# Altium footprint library FPGA_MG.PcbLib: 34 footprints (part 1 of 4)
Each footprint in its own frame and in the unit in brackets; x right, y up, seen from the top. Pads: shape width x height; smd on the part's side, far side on the other; paste and mask are expansions set on the pad; w line width, h text height; cw(c..) or ccw(c..) is an arc to the next point about the centre after c.
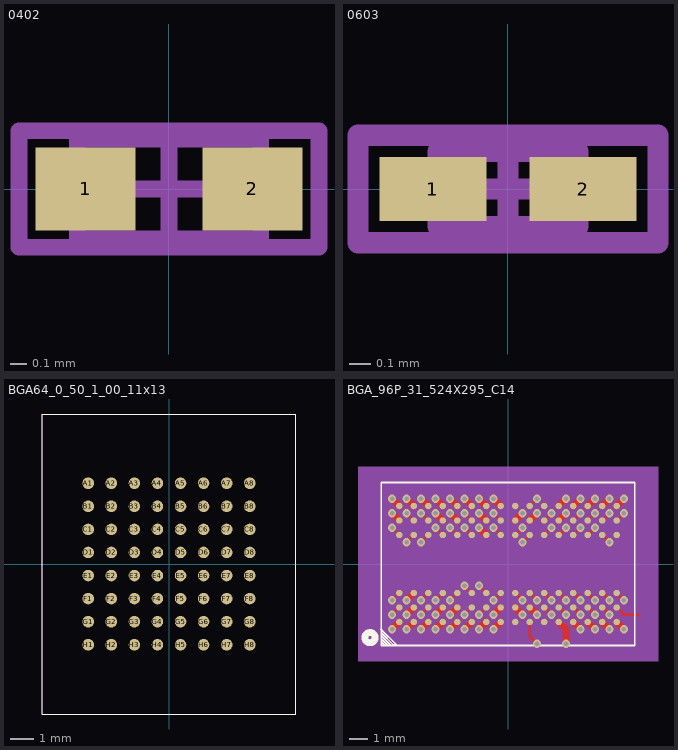
[diagram p0: the footprints below, top view; thin cyan lines are the x and y axes]

## 0402 [mm] "Chip Capacitor, Body 1.0x0.5mm, IPC High Density"
height 1.3
pads (2):
  rect 0.6x0.5 smd: 1(-0.5,0) 2(0.5,0)
Mechanical 13:
  lines w0.1: -0.55,-0.3 -0.55,0.3 0.55,0.3 0.55,-0.3 -0.55,-0.3
Mechanical 15:
  lines w0.1: -0.3,0 0.3,0 ; 0,-0.3 0,0.3 ; -0.9,-0.35 -0.9,0.35 0.9,0.35 0.9,-0.35 -0.9,-0.35
3D body: height 1.3, standoff 0, extent -0.55,-0.3 0.55,0.3

## 0603 [mm] "Chip Inductor, Body 0.6x0.3mm, IPC High Density"
height 0.55
pads (2):
  rect 0.5x0.3 smd: 1(-0.35,0) 2(0.35,0)
Mechanical 13:
  lines w0.1: -0.325,-0.175 0.325,-0.175 0.325,0.175 -0.325,0.175 -0.325,-0.175
Mechanical 15:
  lines w0.1: -0.175,0 0.175,0 ; 0,-0.175 0,0.175 ; -0.7,-0.25 0.7,-0.25 0.7,0.25 -0.7,0.25 -0.7,-0.25
3D body: height 0.55, standoff 0, extent -0.325,-0.175 0.325,0.175

## BGA64_0_50_1_00_11x13 [mm] "BGA64_0_50_1_00_11X13"
pads (64):
  round 0.5 smd: A1(-3.5,3.5) A2(-2.5,3.5) A3(-1.5,3.5) A4(-0.5,3.5) A5(0.5,3.5) A6(1.5,3.5) A7(2.5,3.5) A8(3.5,3.5) B1(-3.5,2.5) B2(-2.5,2.5) B3(-1.5,2.5) B4(-0.5,2.5) B5(0.5,2.5) B6(1.5,2.5) B7(2.5,2.5) B8(3.5,2.5) C1(-3.5,1.5) C2(-2.5,1.5) C3(-1.5,1.5) C4(-0.5,1.5) C5(0.5,1.5) C6(1.5,1.5) C7(2.5,1.5) C8(3.5,1.5) D1(-3.5,0.5) D2(-2.5,0.5) D3(-1.5,0.5) D4(-0.5,0.5) D5(0.5,0.5) D6(1.5,0.5) D7(2.5,0.5) D8(3.5,0.5) E1(-3.5,-0.5) E2(-2.5,-0.5) E3(-1.5,-0.5) E4(-0.5,-0.5) E5(0.5,-0.5) E6(1.5,-0.5) E7(2.5,-0.5) E8(3.5,-0.5) F1(-3.5,-1.5) F2(-2.5,-1.5) F3(-1.5,-1.5) F4(-0.5,-1.5) F5(0.5,-1.5) F6(1.5,-1.5) F7(2.5,-1.5) F8(3.5,-1.5) G1(-3.5,-2.5) G2(-2.5,-2.5) G3(-1.5,-2.5) G4(-0.5,-2.5) G5(0.5,-2.5) G6(1.5,-2.5) G7(2.5,-2.5) G8(3.5,-2.5) H1(-3.5,-3.5) H2(-2.5,-3.5) H3(-1.5,-3.5) H4(-0.5,-3.5) H5(0.5,-3.5) H6(1.5,-3.5) H7(2.5,-3.5) H8(3.5,-3.5)
Top Overlay:
  lines w0.025: -5.5,-6.5 -5.5,6.5 5.5,6.5 5.5,-6.5 -5.5,-6.5
Mechanical 5:
  lines w0.025: -5.5,-6.5 -5.5,6.5 5.5,6.5 5.5,-6.5 -5.5,-6.5
  text "U7" at -0.192,6.836 h0.64
Mechanical 14:
  text "H7" at 2.094,-3.5 h0.51
  text "E8" at 3.094,-0.5 h0.51
  text "H2" at -2.907,-3.5 h0.51
  text "G5" at 0.094,-2.5 h0.51
  text "G6" at 1.094,-2.5 h0.51
  text "G3" at -1.907,-2.5 h0.51
  text "F3" at -1.907,-1.5 h0.51
  text "F5" at 0.094,-1.5 h0.51
  text "G4" at -0.907,-2.5 h0.51
  text "F2" at -2.907,-1.5 h0.51
  text "A4" at -0.907,3.5 h0.51
  text "F6" at 1.094,-1.5 h0.51
  text "G7" at 2.094,-2.5 h0.51
  text "F4" at -0.907,-1.5 h0.51
  text "A5" at 0.094,3.5 h0.51
  text "G2" at -2.907,-2.5 h0.51
  text "C7" at 2.094,1.5 h0.51
  text "C2" at -2.907,1.5 h0.51
  text "C6" at 1.094,1.5 h0.51
  text "A2" at -2.907,3.5 h0.51
  text "A3" at -1.907,3.5 h0.51
  text "D7" at 2.094,0.5 h0.51
  text "D3" at -1.907,0.5 h0.51
  text "A6" at 1.094,3.5 h0.51
  text "C3" at -1.907,1.5 h0.51
  text "E7" at 2.094,-0.5 h0.51
  text "D2" at -2.907,0.5 h0.51
  text "B6" at 1.094,2.5 h0.51
  text "D6" at 1.094,0.5 h0.51
  text "B2" at -2.907,2.5 h0.51
  text "E3" at -1.907,-0.5 h0.51
  text "E5" at 0.094,-0.5 h0.51
  text "A7" at 2.094,3.5 h0.51
  text "H6" at 1.094,-3.5 h0.51
  text "B7" at 2.094,2.5 h0.51
  text "H5" at 0.094,-3.5 h0.51
  text "E6" at 1.094,-0.5 h0.51
  text "H4" at -0.907,-3.5 h0.51
  text "E4" at -0.907,-0.5 h0.51
  text "H3" at -1.907,-3.5 h0.51
  text "B3" at -1.907,2.5 h0.51
  text "C4" at -0.907,1.5 h0.51
  text "D5" at 0.094,0.5 h0.51
  text "D4" at -0.907,0.5 h0.51
  text "C5" at 0.094,1.5 h0.51
  text "B8" at 3.094,2.5 h0.51
  text "E2" at -2.907,-0.5 h0.51
  text "C8" at 3.094,1.5 h0.51
  text "B5" at 0.094,2.5 h0.51
  text "B4" at -0.907,2.5 h0.51
  text "F7" at 2.094,-1.5 h0.51
  text "B1" at -3.907,2.5 h0.51
  text "F8" at 3.094,-1.5 h0.51
  text "G8" at 3.094,-2.5 h0.51
  text "G1" at -3.907,-2.5 h0.51
  text "E1" at -3.907,-0.5 h0.51
  text "D1" at -3.907,0.5 h0.51
  text "C1" at -3.907,1.5 h0.51
  text "H8" at 3.094,-3.5 h0.51
  text "H1" at -3.907,-3.5 h0.51
  text "A8" at 3.094,3.5 h0.51
  text "A1" at -3.907,3.5 h0.51
  text "D8" at 3.094,0.5 h0.51
  text "F1" at -3.907,-1.5 h0.51
Mechanical 16:
  lines w0.025: -5.5,-6.5 -5.5,6.5 ; -5.5,-6.5 5.5,-6.5 ; -5.5,-6.5 -5.5,6.5 ; -5.5,-6.5 5.5,-6.5 ; -5.5,-6.5 -5.5,6.5 ; -5.5,-6.5 5.5,-6.5 ; -5.5,6.5 5.5,6.5 ; -5.5,6.5 5.5,6.5 ; -5.5,6.5 5.5,6.5 ; 5.5,-6.5 5.5,6.5 ; 5.5,-6.5 5.5,6.5 ; 5.5,-6.5 5.5,6.5

## BGA_96P_31_524X295_C14 [mil] "BGA_96P_31_524X295_C14"
pads (96):
  round 14 smd: A1(-236.22,-125.98) A2(-236.22,-94.49) A3(-236.22,-62.99) A7(-236.22,62.99) A8(-236.22,94.49) A9(-236.22,125.98) B1(-204.72,-125.98) B2(-204.72,-94.49) B3(-204.72,-62.99) B7(-204.72,62.99) B8(-204.72,94.49) B9(-204.72,125.98) C1(-173.23,-125.98) C2(-173.23,-94.49) C3(-173.23,-62.99) C7(-173.23,62.99) C8(-173.23,94.49) C9(-173.23,125.98) D1(-141.73,-125.98) D2(-141.73,-94.49) D3(-141.73,-62.99) D7(-141.73,62.99) D8(-141.73,94.49) D9(-141.73,125.98) E1(-110.24,-125.98) E2(-110.24,-94.49) E3(-110.24,-62.99) E7(-110.24,62.99) E8(-110.24,94.49) E9(-110.24,125.98) F1(-78.74,-125.98) F2(-78.74,-94.49) F3(-78.74,-62.99) F7(-78.74,62.99) F8(-78.74,94.49) F9(-78.74,125.98) G1(-47.24,-125.98) G2(-47.24,-94.49) G3(-47.24,-62.99) G7(-47.24,62.99) G8(-47.24,94.49) G9(-47.24,125.98) H1(-15.75,-125.98) H2(-15.75,-94.49) H3(-15.75,-62.99) H7(-15.75,62.99) H8(-15.75,94.49) H9(-15.75,125.98) J1(15.75,-125.98) J2(15.75,-94.49) J3(15.75,-62.99) J7(15.75,62.99) J8(15.75,94.49) J9(15.75,125.98) K1(47.24,-125.98) K2(47.24,-94.49) K3(47.24,-62.99) K7(47.24,62.99) K8(47.24,94.49) K9(47.24,125.98) L1(78.74,-125.98) L2(78.74,-94.49) L3(78.74,-62.99) L7(78.74,62.99) L8(78.74,94.49) L9(78.74,125.98) M1(110.24,-125.98) M2(110.24,-94.49) M3(110.24,-62.99) M7(110.24,62.99) M8(110.24,94.49) M9(110.24,125.98) N1(141.73,-125.98) N2(141.73,-94.49) N3(141.73,-62.99) N7(141.73,62.99) N8(141.73,94.49) N9(141.73,125.98) P1(173.23,-125.98) P2(173.23,-94.49) P3(173.23,-62.99) P7(173.23,62.99) P8(173.23,94.49) P9(173.23,125.98) R1(204.72,-125.98) R2(204.72,-94.49) R3(204.72,-62.99) R7(204.72,62.99) R8(204.72,94.49) R9(204.72,125.98) T1(236.22,-125.98) T2(236.22,-94.49) T3(236.22,-62.99) T7(236.22,62.99) T8(236.22,94.49) T9(236.22,125.98)
via 251.96,141.72 diameter 18 hole 10
via 188.97,141.72 diameter 18 hole 10
via 125.98,141.72 diameter 18 hole 10
via 31.49,110.23 diameter 18 hole 10
via 251.96,-141.72 diameter 18 hole 10
via 188.97,-141.72 diameter 18 hole 10
via 125.98,-173.21 diameter 18 hole 10
via 31.49,-110.23 diameter 18 hole 10
via -251.96,141.72 diameter 18 hole 10
via -220.46,141.72 diameter 18 hole 10
via -220.46,-78.73 diameter 18 hole 10
via -62.98,110.23 diameter 18 hole 10
via -62.98,141.72 diameter 18 hole 10
via -94.48,141.72 diameter 18 hole 10
via -125.98,110.23 diameter 18 hole 10
via -157.47,110.23 diameter 18 hole 10
via -62.98,-141.72 diameter 18 hole 10
via -125.98,-141.72 diameter 18 hole 10
via -125.98,-110.23 diameter 18 hole 10
via -157.47,-141.72 diameter 18 hole 10
via -220.46,-141.72 diameter 18 hole 10
via -220.46,47.24 diameter 18 hole 10
via -94.49,-47.25 diameter 18 hole 10
via 188.97,110.23 diameter 18 hole 10
via -31.49,-78.73 diameter 18 hole 10
via 188.97,-110.23 diameter 18 hole 10
via -125.98,-78.73 diameter 18 hole 10
via -251.97,-78.74 diameter 18 hole 10
via -251.97,78.74 diameter 18 hole 10
via -94.48,110.23 diameter 18 hole 10
via 220.46,-78.73 diameter 18 hole 10
via 157.47,78.73 diameter 18 hole 10
via -94.49,78.74 diameter 18 hole 10
via 125.98,78.73 diameter 18 hole 10
via -188.97,-78.73 diameter 18 hole 10
via -157.47,78.73 diameter 18 hole 10
via 251.96,110.23 diameter 18 hole 10
via 188.97,78.73 diameter 18 hole 10
via 251.97,-78.74 diameter 18 hole 10
via -188.97,-110.23 diameter 18 hole 10
via 157.47,-110.23 diameter 18 hole 10
via -62.98,-110.23 diameter 18 hole 10
via -251.96,-110.23 diameter 18 hole 10
via -31.49,78.73 diameter 18 hole 10
via 220.46,110.23 diameter 18 hole 10
via 157.47,-78.73 diameter 18 hole 10
via -94.48,-110.23 diameter 18 hole 10
via -188.97,110.23 diameter 18 hole 10
via 188.97,-78.73 diameter 18 hole 10
via -220.46,110.23 diameter 18 hole 10
via -31.49,110.23 diameter 18 hole 10
via 94.49,78.74 diameter 18 hole 10
via 220.46,47.24 diameter 18 hole 10
via 220.46,-110.23 diameter 18 hole 10
via 62.98,-173.21 diameter 18 hole 10
via -62.98,-47.24 diameter 18 hole 10
via -188.97,47.24 diameter 18 hole 10
via 94.48,110.23 diameter 18 hole 10
via 157.47,110.23 diameter 18 hole 10
via 94.48,-110.23 diameter 18 hole 10
via 125.98,-78.73 diameter 18 hole 10
via 94.49,-78.74 diameter 18 hole 10
via 31.49,-78.73 diameter 18 hole 10
via 31.49,47.24 diameter 18 hole 10
via 31.49,78.73 diameter 18 hole 10
via 62.98,-78.73 diameter 18 hole 10
via 62.98,141.72 diameter 18 hole 10
via 125.98,-110.23 diameter 18 hole 10
via -125.98,78.73 diameter 18 hole 10
via -157.47,-78.73 diameter 18 hole 10
via 125.98,110.23 diameter 18 hole 10
via -31.49,-141.72 diameter 18 hole 10
via 157.47,141.72 diameter 18 hole 10
via 157.47,-141.72 diameter 18 hole 10
via 62.98,-110.23 diameter 18 hole 10
via -31.49,141.72 diameter 18 hole 10
via -62.98,78.73 diameter 18 hole 10
via -251.96,110.23 diameter 18 hole 10
via -188.97,141.72 diameter 18 hole 10
via -157.47,141.72 diameter 18 hole 10
via -125.98,141.72 diameter 18 hole 10
via 62.98,110.23 diameter 18 hole 10
via -31.49,-110.23 diameter 18 hole 10
via -188.97,-141.72 diameter 18 hole 10
via -220.46,-110.23 diameter 18 hole 10
via -251.96,-141.72 diameter 18 hole 10
via -157.47,-110.23 diameter 18 hole 10
via -94.48,-141.72 diameter 18 hole 10
via 220.46,141.72 diameter 18 hole 10
via 220.46,-141.72 diameter 18 hole 10
Top Layer:
  lines w5: -251.96,-110.23 -236.22,-94.49 ; -251.97,-78.74 -236.22,-62.99 ; -251.97,78.74 -236.22,62.99 ; -220.46,110.23 -204.72,94.49 ; -204.72,62.99 -220.46,47.25 ; -188.97,-110.23 -173.23,-94.49 ; -188.97,-78.73 -173.23,-62.99 ; -188.97,110.23 -173.23,94.49 ; -173.23,62.99 -188.97,47.25 ; -157.47,-78.73 -141.73,-62.99 ; -157.47,78.73 -141.73,62.99 ; -125.98,-78.73 -110.24,-62.99 ; -125.98,78.73 -110.24,62.99 ; -94.48,-110.23 -78.74,-94.49 ; -94.49,78.74 -78.74,62.99 ; -94.48,110.23 -78.74,94.49 ; -78.74,-62.99 -94.48,-47.25 ; -62.98,-110.23 -47.24,-94.49 ; -47.24,-62.99 -62.98,-47.25 ; -31.49,-78.73 -15.75,-62.99 ; -31.49,78.73 -15.75,62.99 ; -31.49,110.23 -15.75,94.49 ; 15.75,62.99 31.49,78.73 ; 31.49,47.24 47.24,62.99 ; 47.24,125.98 62.98,141.72 ; 78.74,62.99 94.49,78.74 ; 78.74,94.49 94.48,110.23 ; 141.73,62.99 157.47,78.73 ; 141.73,94.49 157.47,110.23 ; 173.23,62.99 188.97,78.73 ; 173.23,94.49 188.97,110.23 ; 204.72,62.99 220.46,47.25 ; 204.72,94.49 220.46,110.23 ; 236.22,94.49 251.96,110.23 ; -220.46,47.24 -220.46,47.25 ; -188.97,47.24 -188.97,47.25 ; -94.49,-47.25 -94.48,-47.25 ; -62.98,-47.25 -62.98,-47.24 ; 220.46,47.24 220.46,47.25
  lines w6: 15.75,-62.99 31.49,-78.73 ; 47.24,-125.98 47.24,-157.47 62.98,-173.21 ; 47.24,-62.99 62.98,-78.73 ; 78.74,-94.49 94.48,-110.23 ; 78.74,-62.99 94.49,-78.74 ; 110.24,-94.49 125.98,-110.23 ; 110.24,-62.99 125.98,-78.73 ; 110.24,62.99 125.98,78.73 ; 141.73,-94.49 157.47,-110.23 ; 141.73,-62.99 157.47,-78.73 ; 173.23,-94.49 188.97,-110.23 ; 173.23,-62.99 188.97,-78.73 ; 204.72,-94.49 220.46,-110.23 ; 204.72,-62.99 220.46,-78.73 ; 236.22,-94.49 251.96,-110.23 283.45,-110.23 ; 236.22,-62.99 251.97,-78.74
  lines w15: -251.96,-141.72 -236.22,-125.98 ; -251.96,110.23 -236.22,94.49 ; -251.96,141.72 -236.22,125.98 ; -220.46,-141.72 -204.72,-125.98 ; -220.46,-110.23 -204.72,-94.49 ; -220.46,-78.73 -204.72,-62.99 ; -220.46,141.72 -204.72,125.98 ; -188.97,-141.72 -173.23,-125.98 ; -188.97,141.72 -173.23,125.98 ; -157.47,-141.72 -141.73,-125.98 ; -157.47,-110.23 -141.73,-94.49 ; -157.47,110.23 -141.73,94.49 ; -157.47,141.72 -141.73,125.98 ; -125.98,-141.72 -110.24,-125.98 ; -125.98,-110.23 -110.24,-94.49 ; -125.98,110.23 -110.24,94.49 ; -125.98,141.72 -110.24,125.98 ; -94.48,-141.72 -78.74,-125.98 ; -94.48,141.72 -78.74,125.98 ; -62.98,-141.72 -47.24,-125.98 ; -62.98,78.73 -47.24,62.99 ; -62.98,110.23 -47.24,94.49 ; -62.98,141.72 -47.24,125.98 ; -31.49,-141.72 -15.75,-125.98 ; -31.49,-110.23 -15.75,-94.49 ; -31.49,141.72 -15.75,125.98 ; 15.75,-94.49 31.49,-110.23 ; 15.75,94.49 31.49,110.23 ; 47.24,-94.49 62.98,-110.23 ; 47.24,94.49 62.98,110.23 ; 110.24,-125.98 125.98,-141.72 125.98,-173.21 ; 110.24,94.49 125.98,110.23 ; 110.24,125.98 125.98,141.72 ; 141.73,-125.98 157.47,-141.72 ; 141.73,125.98 157.47,141.72 ; 173.23,-125.98 188.97,-141.72 ; 173.23,125.98 188.97,141.72 ; 204.72,-125.98 220.46,-141.72 ; 204.72,125.98 220.46,141.72 ; 236.22,-125.98 251.96,-141.72 ; 236.22,125.98 251.96,141.72
Top Overlay:
  circle w15: c-300,-160 r11.18
  lines w3.94: -275.98,-142.52 -275.2,-142.52 -241.73,-175.98 -248.82,-175.98 -275.2,-149.61 -275.2,-156.3 -255.12,-176.38 -261.42,-176.38 -274.41,-163.39 -274.41,-170.08 -268.11,-176.38 ; -275.59,-177.16 -275.59,177.16 275.59,177.16 275.59,-177.16 -275.59,-177.16
  text ".Designator" at -327.51,-7.51 h25
Mechanical 1:
  lines w1: -261.81,-147.64 -261.81,147.64 261.81,147.64 261.81,-147.64 -261.81,-147.64
Mechanical 5:
  circle w15: c-300,-160 r11.18
  lines w3.94: -275.98,-142.52 -275.2,-142.52 -241.73,-175.98 -248.82,-175.98 -275.2,-149.61 -275.2,-156.3 -255.12,-176.38 -261.42,-176.38 -274.41,-163.39 -274.41,-170.08 -268.11,-176.38 ; -275.59,-177.16 -275.59,177.16 275.59,177.16 275.59,-177.16 -275.59,-177.16
Mechanical 14:
  text "T9" at 236.22,146.14 h25.2
  text "P9" at 173.23,146.14 h25.2
  text "M9" at 110.24,146.14 h25.2
  text "J8" at 15.75,114.65 h25.2
  text "T1" at 236.22,-105.82 h25.2
  text "P1" at 173.23,-105.82 h25.2
  text "M1" at 110.24,-105.82 h25.2
  text "J2" at 15.75,-74.33 h25.2
  text "A9" at -236.22,146.14 h25.2
  text "B9" at -204.72,146.14 h25.2
  text "B3" at -204.72,-42.83 h25.2
  text "G8" at -47.24,114.65 h25.2
  text "G9" at -47.24,146.14 h25.2
  text "F9" at -78.74,146.14 h25.2
  text "E8" at -110.24,114.65 h25.2
  text "D8" at -141.73,114.65 h25.2
  text "G1" at -47.24,-105.82 h25.2
  text "E1" at -110.24,-105.82 h25.2
  text "E2" at -110.24,-74.33 h25.2
  text "D1" at -141.73,-105.82 h25.2
  text "B1" at -204.72,-105.82 h25.2
  text "L9" at 78.74,146.14 h25.2
  text "L1" at 78.74,-105.82 h25.2
  text "J9" at 15.75,146.14 h25.2
  text "J1" at 15.75,-105.82 h25.2
  text "B7" at -204.72,83.15 h25.2
  text "F3" at -78.74,-42.83 h25.2
  text "P8" at 173.23,114.65 h25.2
  text "H3" at -15.75,-42.83 h25.2
  text "P2" at 173.23,-74.33 h25.2
  text "E3" at -110.24,-42.83 h25.2
  text "A3" at -236.22,-42.83 h25.2
  text "A7" at -236.22,83.15 h25.2
  text "F8" at -78.74,114.65 h25.2
  text "R3" at 204.72,-42.83 h25.2
  text "N7" at 141.73,83.15 h25.2
  text "F7" at -78.74,83.15 h25.2
  text "M7" at 110.24,83.15 h25.2
  text "C3" at -173.23,-42.83 h25.2
  text "D7" at -141.73,83.15 h25.2
  text "T8" at 236.22,114.65 h25.2
  text "P7" at 173.23,83.15 h25.2
  text "T3" at 236.22,-42.83 h25.2
  text "C2" at -173.23,-74.33 h25.2
  text "N2" at 141.73,-74.33 h25.2
  text "G2" at -47.24,-74.33 h25.2
  text "A2" at -236.22,-74.33 h25.2
  text "H7" at -15.75,83.15 h25.2
  text "R8" at 204.72,114.65 h25.2
  text "N3" at 141.73,-42.83 h25.2
  text "F2" at -78.74,-74.33 h25.2
  text "C8" at -173.23,114.65 h25.2
  text "P3" at 173.23,-42.83 h25.2
  text "T2" at 236.22,-74.33 h25.2
  text "B8" at -204.72,114.65 h25.2
  text "H8" at -15.75,114.65 h25.2
  text "L7" at 78.74,83.15 h25.2
  text "R7" at 204.72,83.15 h25.2
  text "R2" at 204.72,-74.33 h25.2
  text "T7" at 236.22,83.15 h25.2
  text "K1" at 47.24,-105.82 h25.2
  text "G3" at -47.24,-42.83 h25.2
  text "C7" at -173.23,83.15 h25.2
  text "L8" at 78.74,114.65 h25.2
  text "N8" at 141.73,114.65 h25.2
  text "L2" at 78.74,-74.33 h25.2
  text "M3" at 110.24,-42.83 h25.2
  text "L3" at 78.74,-42.83 h25.2
  text "J3" at 15.75,-42.83 h25.2
  text "K7" at 47.24,83.15 h25.2
  text "J7" at 15.75,83.15 h25.2
  text "K3" at 47.24,-42.83 h25.2
  text "K9" at 47.24,146.14 h25.2
  text "M2" at 110.24,-74.33 h25.2
  text "E7" at -110.24,83.15 h25.2
  text "D3" at -141.73,-42.83 h25.2
  text "M8" at 110.24,114.65 h25.2
  text "H1" at -15.75,-105.82 h25.2
  text "N9" at 141.73,146.14 h25.2
  text "N1" at 141.73,-105.82 h25.2
  text "K2" at 47.24,-74.33 h25.2
  text "H9" at -15.75,146.14 h25.2
  text "G7" at -47.24,83.15 h25.2
  text "A8" at -236.22,114.65 h25.2
  text "C9" at -173.23,146.14 h25.2
  text "D9" at -141.73,146.14 h25.2
  text "E9" at -110.24,146.14 h25.2
  text "K8" at 47.24,114.65 h25.2
  text "H2" at -15.75,-74.33 h25.2
  text "C1" at -173.23,-105.82 h25.2
  text "B2" at -204.72,-74.33 h25.2
  text "A1" at -236.22,-105.82 h25.2
  text "D2" at -141.73,-74.33 h25.2
  text "F1" at -78.74,-105.82 h25.2
  text "R9" at 204.72,146.14 h25.2
  text "R1" at 204.72,-105.82 h25.2
Mechanical 16:
  region: -285,-185 285,-185 285,185 -285,185
  pour cut-out: -325.98,-211.81 325.98,-211.81 325.98,211.81 -325.98,211.81
3D body: height 150, standoff 0, extent -285,-185 285,185